# Altium schematic symbol library AD8217_Currentsense.SchLib: 2 symbols
Pins are listed as number, name and electrical type; pins without a type are passive.

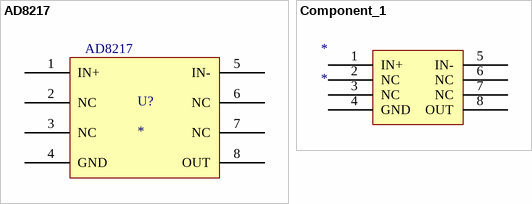
[diagram p0: symbols AD8217 to Component_1]

## AD8217
designator U?
Current Sense; ComponentLink1Description: Datasheet; ComponentLink1URL: http://www.analog.com/media/en/technical-documentation/data-sheets/AD8217.pdf
footprint AD8217
pins: 1 IN+, 2 NC, 3 NC, 4 GND, 5 IN-, 6 NC, 7 NC, 8 OUT

## Component_1
designator *
pins: 1 IN+, 2 NC, 3 NC, 4 GND, 5 IN-, 6 NC, 7 NC, 8 OUT